# Altium footprint library Package_SON.PcbLib: 112 footprints (part 1 of 7)
Each footprint in its own frame and in the unit in brackets; x right, y up, seen from the top. Pads: shape width x height; smd on the part's side, far side on the other; paste and mask are expansions set on the pad; w line width, h text height; cw(c..) or ccw(c..) is an arc to the next point about the centre after c.
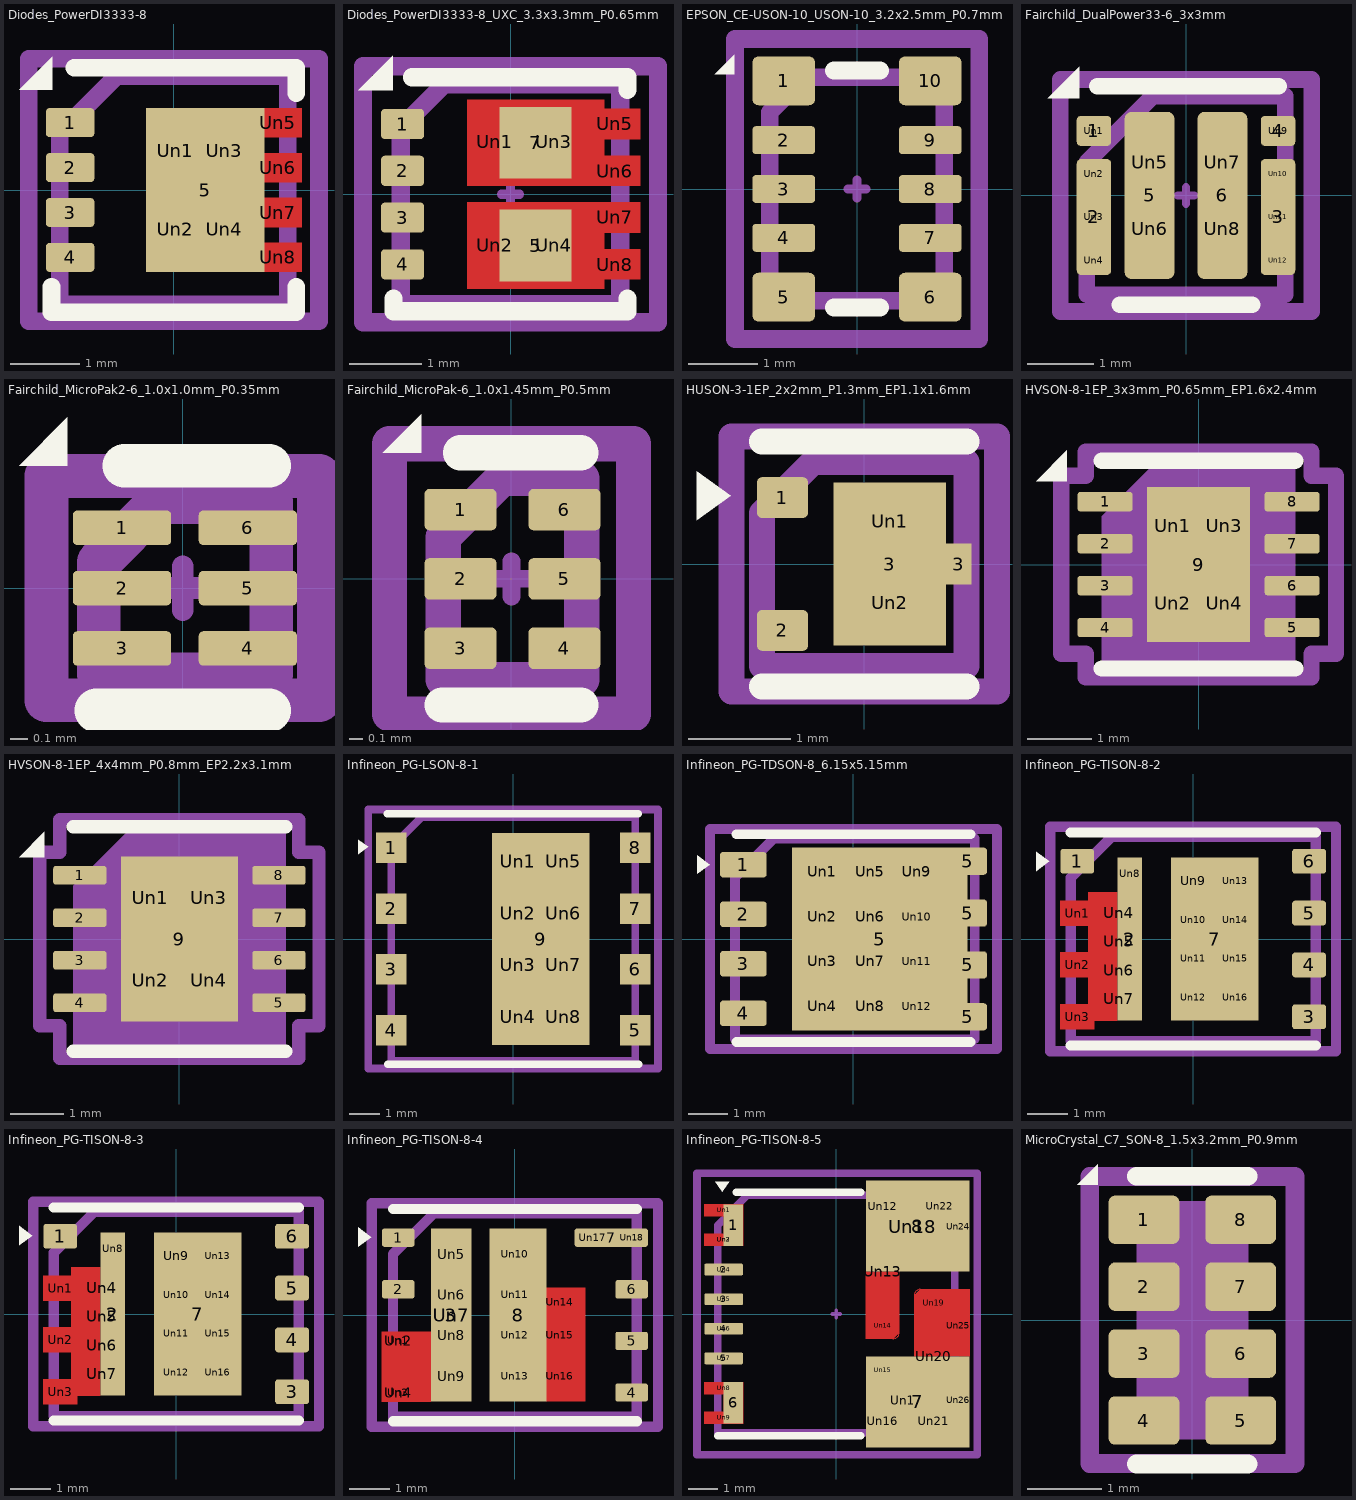
[diagram p0: the footprints below, top view; thin cyan lines are the x and y axes]

## Diodes_PowerDI3333-8 [mm] "Diodes_PowerDI3333-8"
pads (13):
  rrect25% 0.7x0.42 smd: 1(-1.5,0.975) 2(-1.5,0.325) 3(-1.5,-0.325) 4(-1.5,-0.975)
  rect 1.71x2.37 smd: 5(0.455,0)
  rrect25% 0.6x1 on Top Paste: Un1(0.02,0.565) Un2(0.02,-0.565) Un3(0.73,0.565) Un4(0.73,-0.565)
  rrect25% 0.7x0.42 on Top Paste: Un5(1.5,0.975) Un6(1.5,0.325) Un7(1.5,-0.325) Un8(1.5,-0.975)
F.Cu:
  region: 1.85,0.765 1.31,0.765 1.31,1.185 1.85,1.185
  region: 1.85,0.115 1.31,0.115 1.31,0.535 1.85,0.535
  region: 1.85,-0.535 1.31,-0.535 1.31,-0.115 1.85,-0.115
  region: 1.85,-1.185 1.31,-1.185 1.31,-0.765 1.85,-0.765
F.SilkS:
  region: -1.76,1.45 -2.24,1.45 -1.76,1.93
  lines w0.254: -1.77,-1.4 -1.77,-1.77 1.77,-1.77 1.77,-1.4 ; -1.44,1.77 1.77,1.77 1.77,1.4
F.Mask:
  region: 1.85,0.765 1.31,0.765 1.31,1.185 1.85,1.185
  region: 1.85,0.115 1.31,0.115 1.31,0.535 1.85,0.535
  region: 1.85,-0.535 1.31,-0.535 1.31,-0.115 1.85,-0.115
  region: 1.85,-1.185 1.31,-1.185 1.31,-0.765 1.85,-0.765
Top Component Center:
  lines w0.127: -0.127,0 0.127,0 ; 0,-0.127 0,0.127
Top Assembly:
  lines w0.254: -1.65,-1.65 1.65,-1.65 1.65,1.65 -0.825,1.65 -1.65,0.825 -1.65,-1.65
Top Courtyard:
  lines w0.254: -2.1,-1.9 2.1,-1.9 2.1,1.9 -2.1,1.9 -2.1,-1.9
Top Designator:
  text ".Designator" at -3.434,-0.345 h1.52
3D body "Diodes_PowerDI3333-8.step": height 0.8, standoff 0, extent -1.65,-1.65 1.65,1.65

## Diodes_PowerDI3333-8_UXC_3.3x3.3mm_P0.65mm [mm] "Diodes_PowerDI3333-8_UXC_3.3x3.3mm_P0.65mm"
pads (14):
  rrect25% 0.6x0.42 smd: 1(-1.5,0.975) 2(-1.5,0.325) 3(-1.5,-0.325) 4(-1.5,-0.975)
  rect 1x1 smd: 5(0.35,-0.715) 7(0.35,0.715)
  rrect25% 0.6x1 on Top Paste: Un1(-0.22,0.73) Un2(-0.22,-0.71) Un3(0.6,0.73) Un4(0.6,-0.71)
  rrect25% 0.7x0.4 on Top Paste: Un5(1.45,0.98) Un6(1.45,0.32) Un7(1.45,-0.32) Un8(1.45,-0.98)
F.Cu:
  region: 1.8,-0.535 1.3,-0.535 1.3,-0.765 1.8,-0.765 1.8,-1.185 1.3,-1.185 1.3,-1.315 -0.6,-1.315 -0.6,-0.115 1.8,-0.115
  region: 1.3,1.185 1.8,1.185 1.8,0.765 1.3,0.765 1.3,0.535 1.8,0.535 1.8,0.115 -0.6,0.115 -0.6,1.315 1.3,1.315
F.SilkS:
  region: -1.64,1.445 -2.12,1.445 -1.64,1.925
  lines w0.254: -1.625,-1.45 -1.625,-1.625 1.625,-1.625 1.625,-1.45 ; -1.37,1.625 1.625,1.625 1.625,1.45
F.Mask:
  region: 1.8,-0.535 1.3,-0.535 1.3,-0.765 1.8,-0.765 1.8,-1.185 1.3,-1.185 1.3,-1.315 -0.6,-1.315 -0.6,-0.115 1.8,-0.115
  region: 1.3,1.185 1.8,1.185 1.8,0.765 1.3,0.765 1.3,0.535 1.8,0.535 1.8,0.115 -0.6,0.115 -0.6,1.315 1.3,1.315
Top Component Center:
  lines w0.127: -0.127,0 0.127,0 ; 0,-0.127 0,0.127
Top Assembly:
  lines w0.254: -1.525,-1.525 -1.525,0.925 -0.925,1.525 1.525,1.525 1.525,-1.525 -1.525,-1.525
Top Courtyard:
  lines w0.254: -2.05,-1.78 -2.05,1.78 2.05,1.78 2.05,-1.78 -2.05,-1.78
Top Designator:
  text ".Designator" at -3.434,-0.345 h1.52

## EPSON_CE-USON-10_USON-10_3.2x2.5mm_P0.7mm [mm] "EPSON_CE-USON-10_USON-10_3.2x2.5mm_P0.7mm"
pads (10):
  rrect25% 0.9x0.7 smd: 1(-1.05,1.55) 5(-1.05,-1.55) 6(1.05,-1.55) 10(1.05,1.55)
  rrect25% 0.9x0.4 smd: 2(-1.05,0.7) 3(-1.05,0) 4(-1.05,-0.7) 7(1.05,-0.7) 8(1.05,0) 9(1.05,0.7)
F.SilkS:
  region: -1.757,1.645 -2.037,1.645 -1.757,1.925
  lines w0.254: -0.33,-1.7 0.33,-1.7 ; -0.33,1.7 0.33,1.7
Top Component Center:
  lines w0.127: -0.127,0 0.127,0 ; 0,-0.127 0,0.127
Top Assembly:
  lines w0.254: -1.25,-1.6 -1.25,1.1 -0.75,1.6 1.25,1.6 1.25,-1.6 -1.25,-1.6
Top Courtyard:
  lines w0.254: -1.75,-2.15 -1.75,2.15 1.75,2.15 1.75,-2.15 -1.75,-2.15
Top Designator:
  text ".Designator" at -2.252,-0.226 h1

## Fairchild_DualPower33-6_3x3mm [mm] "Fairchild_DualPower33-6_3x3mm"
pads (18):
  rrect25% 0.52x0.45 smd: 1(-1.39,0.975) 4(1.39,0.975)
  rrect25% 0.52x1.75 smd: 2(-1.39,-0.325) 3(1.39,-0.325)
  rrect25% 0.75x2.52 smd: 5(-0.55,0) 6(0.55,0)
  rrect25% 0.35x0.35 on Top Solder: Un1(-1.39,0.975) Un2(-1.39,0.325) Un3(-1.39,-0.325) Un4(-1.39,-0.975) Un9(1.39,0.975) Un10(1.39,0.325) Un11(1.39,-0.325) Un12(1.39,-0.975)
  rrect25% 0.65x0.8 on Top Solder: Un5(-0.55,0.5) Un6(-0.55,-0.5) Un7(0.55,0.5) Un8(0.55,-0.5)
F.SilkS:
  region: -1.61,1.465 -2.09,1.465 -1.61,1.945
  lines w0.254: -1.34,1.65 1.4,1.65 ; -1,-1.65 1,-1.65
Top Component Center:
  lines w0.127: -0.127,0 0.127,0 ; 0,-0.127 0,0.127
Top Assembly:
  lines w0.254: -1.5,-1.5 -1.5,0.5 -0.5,1.5 1.5,1.5 1.5,-1.5 -1.5,-1.5
Top Courtyard:
  lines w0.254: -1.9,-1.75 -1.9,1.75 1.9,1.75 1.9,-1.75 -1.9,-1.75
Top Designator:
  text ".Designator" at -3.434,-0.345 h1.52

## Fairchild_MicroPak2-6_1.0x1.0mm_P0.35mm [mm] "Fairchild_MicroPak2-6_1.0x1.0mm_P0.35mm"
pads (6):
  rrect25% 0.57x0.2 smd: 1(-0.353,0.35) 2(-0.353,0) 3(-0.353,-0.35) 4(0.377,-0.35) 5(0.377,0) 6(0.377,0.35)
F.SilkS:
  region: -0.67,0.71 -0.95,0.71 -0.67,0.99
  lines w0.254: -0.5,-0.71 0.5,-0.71 ; -0.337,0.71 0.5,0.71
Top Component Center:
  lines w0.127: -0.127,0 0.127,0 ; 0,-0.127 0,0.127
Top Assembly:
  lines w0.254: -0.487,-0.5 -0.487,0.15 -0.138,0.5 0.513,0.5 0.513,-0.5 -0.487,-0.5
Top Courtyard:
  lines w0.254: -0.79,-0.65 -0.79,0.65 0.79,0.65 0.79,-0.65 -0.79,-0.65
Top Designator:
  text ".Designator" at -1.689,-0.17 h0.75

## Fairchild_MicroPak-6_1.0x1.45mm_P0.5mm [mm] "Fairchild_MicroPak-6_1.0x1.45mm_P0.5mm"
pads (6):
  rrect25% 0.52x0.3 smd: 1(-0.367,0.5) 2(-0.367,0) 3(-0.367,-0.5) 4(0.383,-0.5) 5(0.383,0) 6(0.383,0.5)
F.SilkS:
  region: -0.65,0.91 -0.93,0.91 -0.65,1.19
  lines w0.254: -0.5,-0.91 0.5,-0.91 ; -0.367,0.91 0.5,0.91
Top Component Center:
  lines w0.127: -0.127,0 0.127,0 ; 0,-0.127 0,0.127
Top Assembly:
  lines w0.254: -0.493,-0.725 -0.493,0.3 -0.068,0.725 0.507,0.725 0.507,-0.725 -0.493,-0.725
Top Courtyard:
  lines w0.254: -0.88,-0.975 -0.88,0.975 0.88,0.975 0.88,-0.975 -0.88,-0.975
Top Designator:
  text ".Designator" at -1.689,-0.17 h0.75

## HUSON-3-1EP_2x2mm_P1.3mm_EP1.1x1.6mm [mm] "HUSON-3-1EP_2x2mm_P1.3mm_EP1.1x1.6mm"
pads (6):
  rrect25% 0.5x0.4 smd: 1(-0.8,0.65) 2(-0.8,-0.65)
  rect 1.1x1.6 smd: 3(0.25,0)
  rect 0.25x0.4 smd: 3(0.925,0)
  rrect25% 0.97x0.64 on Top Paste: Un1(0.25,0.42) Un2(0.25,-0.38)
F.SilkS:
  region: -1.306,0.67 -1.636,0.43 -1.636,0.91
  lines w0.254: -1,-1.2 1,-1.2 ; -1,1.2 1,1.2
Top Component Center:
  lines w0.127: -0.127,0 0.127,0 ; 0,-0.127 0,0.127
Top Assembly:
  lines w0.254: -1,-1 -1,0.5 -0.5,1 1,1 1,-1 -1,-1
Top Courtyard:
  lines w0.254: -1.3,-1.25 -1.3,1.25 1.3,1.25 1.3,-1.25 -1.3,-1.25
Top Designator:
  text ".Designator" at -1.689,-0.17 h0.75

## HVSON-8-1EP_3x3mm_P0.65mm_EP1.6x2.4mm [mm] "HVSON-8-1EP_3x3mm_P0.65mm_EP1.6x2.4mm"
pads (13):
  rrect25% 0.85x0.3 smd: 1(-1.45,0.975) 2(-1.45,0.325) 3(-1.45,-0.325) 4(-1.45,-0.975) 5(1.45,-0.975) 6(1.45,-0.325) 7(1.45,0.325) 8(1.45,0.975)
  rect 1.6x2.4 smd: 9(0,0)
  rrect25% 0.64x0.97 on Top Paste: Un1(-0.4,0.6) Un2(-0.4,-0.6) Un3(0.4,0.6) Un4(0.4,-0.6)
F.SilkS:
  region: -2.04,1.29 -2.52,1.29 -2.04,1.77
  lines w0.254: -1.5,-1.61 1.5,-1.61 ; -1.5,1.61 1.5,1.61
Top Component Center:
  lines w0.127: -0.127,0 0.127,0 ; 0,-0.127 0,0.127
Top Assembly:
  region: 1.5,-1.5 -1.5,-1.5 -1.5,0.75 -0.75,1.5 1.5,1.5
Top Courtyard:
  lines w0.254: -2.13,-1.38 -2.13,1.38 -1.75,1.38 -1.75,1.75 1.75,1.75 1.75,1.38 2.13,1.38 2.13,-1.38 1.75,-1.38 1.75,-1.75 -1.75,-1.75 -1.75,-1.38 -2.13,-1.38
Top Designator:
  text ".Designator" at -3.434,-0.345 h1.52

## HVSON-8-1EP_4x4mm_P0.8mm_EP2.2x3.1mm [mm] "HVSON-8-1EP_4x4mm_P0.8mm_EP2.2x3.1mm"
pads (13):
  rrect25% 1x0.35 smd: 1(-1.875,1.2) 2(-1.875,0.4) 3(-1.875,-0.4) 4(-1.875,-1.2) 5(1.875,-1.2) 6(1.875,-0.4) 7(1.875,0.4) 8(1.875,1.2)
  rect 2.2x3.1 smd: 9(0,0)
  rrect25% 0.89x1.25 on Top Paste: Un1(-0.55,0.775) Un2(-0.55,-0.775) Un3(0.55,0.775) Un4(0.55,-0.775)
F.SilkS:
  region: -2.54,1.54 -3.02,1.54 -2.54,2.02
  lines w0.254: -2,-2.11 2,-2.11 ; -2,2.11 2,2.11
Top Component Center:
  lines w0.127: -0.127,0 0.127,0 ; 0,-0.127 0,0.127
Top Assembly:
  region: 2,-2 -2,-2 -2,1 -1,2 2,2
Top Courtyard:
  lines w0.254: -2.63,-1.63 -2.25,-1.63 -2.25,-2.25 2.25,-2.25 2.25,-1.63 2.63,-1.63 2.63,1.63 2.25,1.63 2.25,2.25 -2.25,2.25 -2.25,1.63 -2.63,1.63 -2.63,-1.63
Top Designator:
  text ".Designator" at -3.434,-0.345 h1.52

## Infineon_PG-LSON-8-1 [mm] "Infineon_PG-LSON-8-1"
pads (17):
  rect 1x1 smd: 1(-4,3) 2(-4,1) 3(-4,-1) 4(-4,-3) 5(4,-3) 6(4,-1) 7(4,1) 8(4,3)
  rect 3.2x6.94 smd: 9(0.9,0)
  rect 1.2x1.4 on Top Paste: Un1(0.15,2.55) Un2(0.15,0.85) Un3(0.15,-0.85) Un4(0.15,-2.55) Un5(1.65,2.55) Un6(1.65,0.85) Un7(1.65,-0.85) Un8(1.65,-2.55)
F.SilkS:
  region: -4.76,3.02 -5.09,2.78 -5.09,3.26
  lines w0.254: -4.12,4.11 4.1,4.11 ; -4.11,-4.11 4.11,-4.11
Top Component Center:
  lines w0.127: -0.127,0 0.127,0 ; 0,-0.127 0,0.127
Top Assembly:
  lines w0.254: -4,-4 4,-4 4,4 -3,4 -4,3 -4,-4
Top Courtyard:
  lines w0.254: -4.75,-4.25 4.75,-4.25 4.75,4.25 -4.75,4.25 -4.75,-4.25
Top Designator:
  text ".Designator" at -3.434,-0.345 h1.52

## Infineon_PG-TDSON-8_6.15x5.15mm [mm] "Infineon_PG-TDSON-8_6.15x5.15mm"
pads (21):
  rrect25% 1.2x0.65 smd: 1(-2.825,1.905) 2(-2.825,0.635) 3(-2.825,-0.635) 4(-2.825,-1.905)
  rect 4.5x4.7 smd: 5(0.675,0)
  rrect25% 1x0.7 smd: 5(2.925,-1.995) 5(2.925,-0.665) 5(2.925,0.665) 5(2.925,1.995)
  rect 0.9x0.9 on Top Paste: Un1(-0.8,1.725) Un2(-0.8,0.575) Un3(-0.8,-0.575) Un4(-0.8,-1.725) Un5(0.425,1.725) Un6(0.425,0.575) Un7(0.425,-0.575) Un8(0.425,-1.725) Un9(1.625,1.725) Un10(1.625,0.575) Un11(1.625,-0.575) Un12(1.625,-1.725)
F.SilkS:
  region: -3.682,1.91 -4.012,1.67 -4.012,2.15
  lines w0.254: -2.995,-2.64 3.005,-2.64 ; -2.995,2.685 3.005,2.685
Top Component Center:
  lines w0.127: -0.127,0 0.127,0 ; 0,-0.127 0,0.127
Top Assembly:
  lines w0.254: -3.045,1.575 -2.045,2.575 ; -3.04,-2.57 3.11,-2.57 3.11,2.58 -2.04,2.58 ; -3.04,-2.56 -3.035,1.57
Top Courtyard:
  lines w0.254: -3.68,-2.82 3.68,-2.82 3.68,2.82 -3.68,2.82 -3.68,-2.82
Top Designator:
  text ".Designator" at -3.434,-0.345 h1.52

## Infineon_PG-TISON-8-2 [mm] "Infineon_PG-TISON-8-2"
pads (23):
  rrect25% 0.83x0.61 smd: 1(-2.84,1.905) 3(2.84,-1.905) 4(2.84,-0.635) 5(2.84,0.635) 6(2.84,1.905)
  rect 0.6x4 smd: 2(-1.555,0)
  rect 2.15x4 smd: 7(0.53,0)
  rect 0.73x0.51 on Top Paste: Un1(-2.84,0.635) Un2(-2.84,-0.635) Un3(-2.84,-1.905)
  rect 0.9x0.5 on Top Paste: Un4(-1.82,0.64) Un5(-1.82,-0.06) Un6(-1.82,-0.76) Un7(-1.82,-1.46)
  rect 0.35x0.6 on Top Paste: Un8(-1.545,1.6)
  rect 0.75x0.75 on Top Paste: Un9(0,1.425) Un10(0,0.475) Un11(0,-0.475) Un12(0,-1.425) Un13(1.025,1.425) Un14(1.025,0.475) Un15(1.025,-0.475) Un16(1.025,-1.425)
F.Cu:
  region: -1.855,-2 -2.425,-2 -2.425,-2.21 -3.255,-2.21 -3.255,-1.6 -2.575,-1.6 -2.575,-0.94 -3.255,-0.94 -3.255,-0.33 -2.575,-0.33 -2.575,0.33 -3.255,0.33 -3.255,0.94 -2.575,0.94 -2.575,1.14 -1.855,1.14
F.SilkS:
  region: -3.522,1.9 -3.852,1.66 -3.852,2.14
  lines w0.254: -3,-2.61 3,-2.61 ; -3,2.61 3,2.61
F.Mask:
  region: -1.855,-2 -2.425,-2 -2.425,-2.21 -3.255,-2.21 -3.255,-1.6 -2.575,-1.6 -2.575,-0.94 -3.255,-0.94 -3.255,-0.33 -2.575,-0.33 -2.575,0.33 -3.255,0.33 -3.255,0.94 -2.575,0.94 -2.575,1.14 -1.855,1.14
Top Component Center:
  lines w0.127: -0.127,0 0.127,0 ; 0,-0.127 0,0.127
Top Assembly:
  lines w0.254: -3,-2.5 3,-2.5 3,2.5 -2,2.5 -3,1.5 -3,-2.5
Top Courtyard:
  lines w0.254: -3.5,-2.75 3.5,-2.75 3.5,2.75 -3.5,2.75 -3.5,-2.75
Top Designator:
  text ".Designator" at -3.434,-0.345 h1.52

## Infineon_PG-TISON-8-3 [mm] "Infineon_PG-TISON-8-3"
pads (23):
  rrect25% 0.83x0.61 smd: 1(-2.84,1.905) 3(2.84,-1.905) 4(2.84,-0.635) 5(2.84,0.635) 6(2.84,1.905)
  rect 0.6x4 smd: 2(-1.555,0)
  rect 2.15x4 smd: 7(0.53,0)
  rect 0.73x0.51 on Top Paste: Un1(-2.84,0.635) Un2(-2.84,-0.635) Un3(-2.84,-1.905)
  rect 0.9x0.5 on Top Paste: Un4(-1.82,0.64) Un5(-1.82,-0.06) Un6(-1.82,-0.76) Un7(-1.82,-1.46)
  rect 0.35x0.6 on Top Paste: Un8(-1.545,1.6)
  rect 0.75x0.75 on Top Paste: Un9(0,1.425) Un10(0,0.475) Un11(0,-0.475) Un12(0,-1.425) Un13(1.025,1.425) Un14(1.025,0.475) Un15(1.025,-0.475) Un16(1.025,-1.425)
F.Cu:
  region: -1.855,-2 -2.425,-2 -2.425,-2.21 -3.255,-2.21 -3.255,-1.6 -2.575,-1.6 -2.575,-0.94 -3.255,-0.94 -3.255,-0.33 -2.575,-0.33 -2.575,0.33 -3.255,0.33 -3.255,0.94 -2.575,0.94 -2.575,1.14 -1.855,1.14
F.SilkS:
  region: -3.52,1.92 -3.85,1.68 -3.85,2.16
  lines w0.254: -3,-2.61 3,-2.61 ; -3,2.61 3,2.61
F.Mask:
  region: -1.855,-2 -2.425,-2 -2.425,-2.21 -3.255,-2.21 -3.255,-1.6 -2.575,-1.6 -2.575,-0.94 -3.255,-0.94 -3.255,-0.33 -2.575,-0.33 -2.575,0.33 -3.255,0.33 -3.255,0.94 -2.575,0.94 -2.575,1.14 -1.855,1.14
Top Component Center:
  lines w0.127: -0.127,0 0.127,0 ; 0,-0.127 0,0.127
Top Assembly:
  lines w0.254: -3,-2.5 3,-2.5 3,2.5 -2,2.5 -3,1.5 -3,-2.5
Top Courtyard:
  lines w0.254: -3.5,-2.75 3.5,-2.75 3.5,2.75 -3.5,2.75 -3.5,-2.75
Top Designator:
  text ".Designator" at -3.434,-0.345 h1.52

## Infineon_PG-TISON-8-4 [mm] "Infineon_PG-TISON-8-4"
pads (26):
  rrect25% 0.8x0.45 smd: 1(-2.87,1.905) 2(-2.87,0.635) 4(2.87,-1.905) 5(2.87,-0.635) 6(2.87,0.635)
  rect 1x4.25 smd: 3(-1.57,0)
  rrect25% 1.8x0.45 smd: 7(2.37,1.905)
  rect 1.4x4.25 smd: 8(0.077,0)
  rect 0.7x0.35 on Top Paste: Un1(-2.87,-0.635) Un3(-2.87,-1.905)
  rect 0.8x0.45 on Top Solder: Un2(-2.87,-0.635) Un4(-2.87,-1.905)
  rect 0.8x0.75 on Top Paste: Un5(-1.57,1.5) Un6(-1.57,0.5) Un8(-1.57,-0.5) Un9(-1.57,-1.5)
  rect 1x4.25 on Top Solder: Un7(-1.57,0)
  rect 0.85x0.75 on Top Paste: Un10(0,1.5) Un11(0,0.5) Un12(0,-0.5) Un13(0,-1.5) Un15(1.1,-0.5) Un16(1.1,-1.5)
  rect 0.85x0.38 on Top Paste: Un14(1.1,0.315)
  rrect25% 0.8x0.35 on Top Paste: Un17(1.92,1.905)
  rrect25% 0.7x0.35 on Top Paste: Un18(2.87,1.905)
F.Cu:
  region: 1.727,-2.125 0.777,-2.125 0.777,0.675 1.727,0.675
  region: -2.07,-2.13 -3.27,-2.13 -3.27,-0.41 -2.07,-0.41
F.SilkS:
  region: -3.53,1.92 -3.86,1.68 -3.86,2.16
  lines w0.254: -3,-2.61 3,-2.61 ; -3,2.61 3,2.61
F.Mask:
  region: 1.727,-2.125 0.777,-2.125 0.777,0.675 1.727,0.675
Top Component Center:
  lines w0.127: -0.127,0 0.127,0 ; 0,-0.127 0,0.127
Top Assembly:
  lines w0.254: -3,-2.5 3,-2.5 3,2.5 -2,2.5 -3,1.5 -3,-2.5
Top Courtyard:
  lines w0.254: -3.52,-2.75 3.52,-2.75 3.52,2.75 -3.52,2.75 -3.52,-2.75
Top Designator:
  text ".Designator" at -3.434,-0.345 h1.52

## Infineon_PG-TISON-8-5 [mm] "Infineon_PG-TISON-8-5"
pads (34):
  rect 0.66x1.4 smd: 1(-3.47,3) 6(-3.47,-3)
  rrect25% 1.3x0.4 smd: 2(-3.8,1.5) 3(-3.8,0.5) 4(-3.8,-0.5) 5(-3.8,-1.5)
  rect 3.5x3.07 smd: 7(2.75,-2.965) 8(2.75,2.965)
  rrect25% 1.2x0.3 on Top Paste: Un1(-3.8,3.5) Un2(-3.8,2.5) Un3(-3.8,2.5) Un4(-3.8,1.5) Un5(-3.8,0.5) Un6(-3.8,-0.5) Un7(-3.8,-1.5) Un8(-3.8,-2.5) Un9(-3.8,-3.5)
  rrect25% 0.5x0.4 on Top Paste: Un10(-3.49,3) Un11(-3.49,-3)
  rrect25% 0.7x1.225 on Top Paste: Un12(1.561,3.638)
  rrect25% 0.7x1.6 on Top Paste: Un13(1.561,1.425)
  rrect25% 0.7x0.455 on Top Paste: Un14(1.561,-0.403)
  rrect25% 0.7x0.545 on Top Paste: Un15(1.561,-1.903)
  rrect25% 0.7x1.275 on Top Paste: Un16(1.561,-3.612)
  rrect25% 0.537x2.57 on Top Paste: Un17(2.379,-2.915)
  rrect25% 0.95x2.62 on Top Paste: Un18(2.586,2.94)
  rrect25% 0.863x0.5 on Top Paste: Un19(3.28,0.375)
  rrect25% 0.863x1.5 on Top Paste: Un20(3.28,-1.425)
  rrect25% 0.863x1.275 on Top Paste: Un21(3.28,-3.612)
  rrect25% 0.45x1.225 on Top Paste: Un22(3.486,3.638)
  rrect25% 0.45x0.595 on Top Paste: Un23(3.486,1.927)
  rrect25% 0.4x2.62 on Top Paste: Un24(4.111,2.94)
  rrect25% 0.4x2.055 on Top Paste: Un25(4.111,-0.403)
  rrect25% 0.4x2.57 on Top Paste: Un26(4.111,-2.915)
F.Cu:
  circle w0: c1.925,-0.63 r0.2
  circle w0: c2.825,0.63 r0.2
  region: 2.125,-0.63 1.925,-0.83 1,-0.83 1,1.43 2.125,1.43
  region: 4.5,-1.43 2.625,-1.43 2.625,0.63 2.825,0.83 4.5,0.83
  region: -3.14,-3.7 -4.45,-3.7 -4.45,-3.3 -3.8,-3.3 -3.8,-2.7 -4.45,-2.7 -4.45,-2.3 -3.14,-2.3
  region: -3.14,2.3 -4.45,2.3 -4.45,2.7 -3.8,2.7 -3.8,3.3 -4.45,3.3 -4.45,3.7 -3.14,3.7
F.SilkS:
  region: -3.85,4.13 -4.09,4.46 -3.61,4.46
  lines w0.254: -4,-4.11 0.82,-4.11 ; -3.38,4.11 0.82,4.11
F.Mask:
  circle w0: c1.925,-0.63 r0.2
  circle w0: c2.825,0.63 r0.2
  region: 2.125,-0.63 1.925,-0.83 1,-0.83 1,1.43 2.125,1.43
  region: 4.5,-1.43 2.625,-1.43 2.625,0.63 2.825,0.83 4.5,0.83
  region: -3.14,-3.7 -4.45,-3.7 -4.45,-3.3 -3.8,-3.3 -3.8,-2.7 -4.45,-2.7 -4.45,-2.3 -3.14,-2.3
  region: -3.14,2.3 -4.45,2.3 -4.45,2.7 -3.8,2.7 -3.8,3.3 -4.45,3.3 -4.45,3.7 -3.14,3.7
Top Component Center:
  lines w0.127: -0.127,0 0.127,0 ; 0,-0.127 0,0.127
Top Assembly:
  lines w0.254: -4,-4 4,-4 4,4 -3,4 -4,3 -4,-4
Top Courtyard:
  lines w0.254: -4.7,-4.75 4.75,-4.75 4.75,4.75 -4.7,4.75 -4.7,-4.75
Top Designator:
  text ".Designator" at -3.434,-0.345 h1.52

## MicroCrystal_C7_SON-8_1.5x3.2mm_P0.9mm [mm] "MicroCrystal_C7_SON-8_1.5x3.2mm_P0.9mm"
pads (8):
  rrect25% 0.95x0.65 smd: 1(-0.65,1.35) 2(-0.65,0.45) 3(-0.65,-0.45) 4(-0.65,-1.35) 5(0.65,-1.35) 6(0.65,-0.45) 7(0.65,0.45) 8(0.65,1.35)
F.SilkS:
  region: -1.27,1.82 -1.55,1.82 -1.27,2.1
  lines w0.254: -0.75,-1.935 0.75,-1.935 ; -0.75,1.935 0.75,1.935
Top Component Center:
  lines w0.127: -0.127,0 0.127,0 ; 0,-0.127 0,0.127
Top Assembly:
  region: 0.75,-1.6 -0.75,-1.6 -0.75,1.225 -0.375,1.6 0.75,1.6
Top Courtyard:
  lines w0.254: -1.38,-1.93 1.38,-1.93 1.38,1.93 -1.38,1.93 -1.38,-1.93
Top Designator:
  text ".Designator" at -2.252,-0.226 h1